# Altium footprint library horus_psu.PcbLib: 5 footprints
Each footprint in its own frame and in the unit in brackets; x right, y up, seen from the top. Pads: shape width x height; smd on the part's side, far side on the other; paste and mask are expansions set on the pad; w line width, h text height; cw(c..) or ccw(c..) is an arc to the next point about the centre after c.
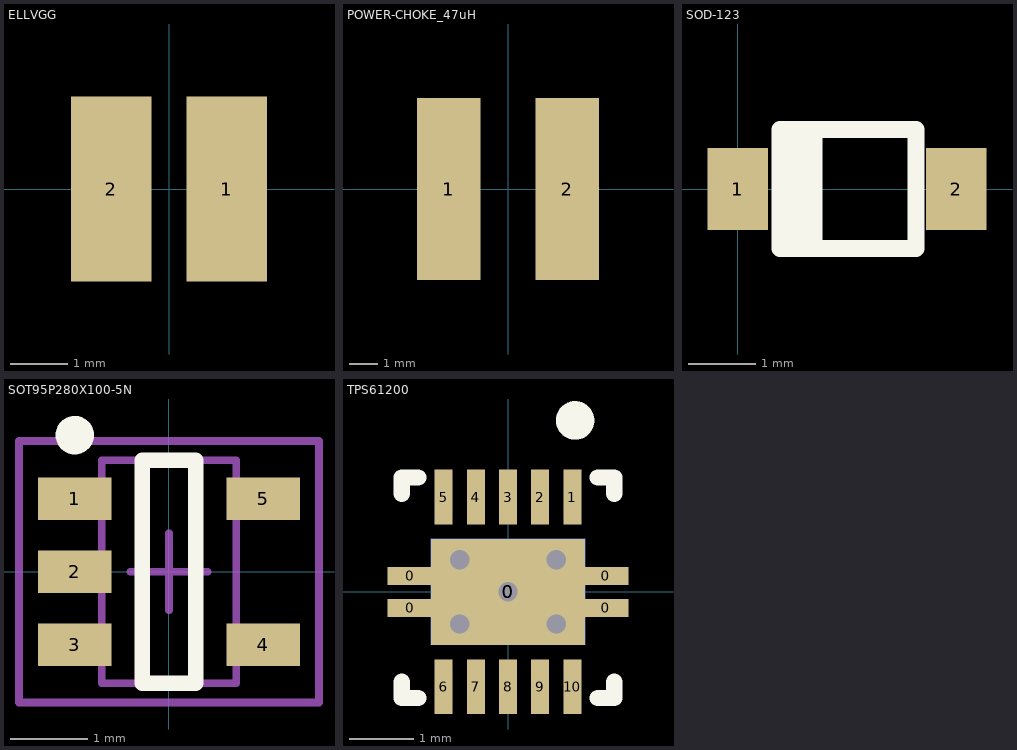
[diagram p0: the footprints below, top view; thin cyan lines are the x and y axes]

## ELLVGG [mm]
height 1.2
pads (2):
  rect 1.4x3.2 smd: 1(1,0) 2(-1,0)

## POWER-CHOKE_47uH [mm]
height 1.8
pads (2):
  rect 2.2x6.3 smd: 1(-2.05,0) 2(2.05,0)

## SOD-123 [mm]
height 1.2
pads (2):
  rect 0.91x1.22 smd: 1(0,0) 2(3.27,0)
Top Overlay:
  rectangle: 0.635,-0.889 1.27,0.889
  lines w0.254: 0.635,-0.889 0.635,0.889 2.667,0.889 2.667,-0.889 0.635,-0.889

## SOT95P280X100-5N [mm] "SOT23, 5-Leads, Body 2.9x2.8mm (max), Pitch 0.95mm, IPC Medium Density"
height 1
pads (5):
  rect 0.95x0.55 smd: 1(-1.225,0.95) 2(-1.225,0) 3(-1.225,-0.95) 4(1.225,-0.95) 5(1.225,0.95)
Top Overlay:
  circle w0.25: c-1.225,1.775 r0.125
  lines w0.2: -0.35,-1.45 0.35,-1.45 0.35,1.45 -0.35,1.45 -0.35,-1.45
Mechanical 13:
  lines w0.1: -0.875,-1.45 -0.875,1.45 0.875,1.45 0.875,-1.45 -0.875,-1.45
Mechanical 15:
  lines w0.1: -0.5,0 0.5,0 ; 0,-0.5 0,0.5 ; -1.95,-1.7 -1.95,1.7 1.95,1.7 1.95,-1.7 -1.95,-1.7
3D body: height 1, standoff 0.01, extent -0.875,-1.45 0.875,1.45

## TPS61200 [mm]
pads (16):
  rect 0.7x0.28 smd: 0(-1.524,-0.25) 0(-1.524,0.25) 0(1.524,-0.25) 0(1.524,0.25)
  rect 2.4x1.65 smd: 0(0,0)
  rect 2.4x1.65 smd far side: 0(0,0)
  rect 0.28x0.85 smd: 1(1,1.475) 2(0.5,1.475) 3(0,1.475) 4(-0.5,1.475) 5(-1,1.475) 6(-1,-1.475) 7(-0.5,-1.475) 8(0,-1.475) 9(0.5,-1.475) 10(1,-1.475)
via -0.75,0.5 diameter 0.4 hole 0.3
via -0.75,-0.5 diameter 0.4 hole 0.3
via 0.75,-0.5 diameter 0.4 hole 0.3
via 0.75,0.5 diameter 0.4 hole 0.3
via 0,0 diameter 0.4 hole 0.3
Top Overlay:
  circle w0.4: c1.043,2.667 r0.1
  lines w0.254: -1.651,-1.397 -1.651,-1.651 -1.397,-1.651 ; -1.651,1.524 -1.651,1.778 -1.397,1.778 ; 1.397,-1.651 1.651,-1.651 1.651,-1.397 ; 1.397,1.778 1.651,1.778 1.651,1.524